# Altium schematic symbol library SCH - DRIVER - LED - TI TPS92512HVDGQR.SCHLIB: 1 symbol
Pins are listed as number, name and electrical type; pins without a type are passive.

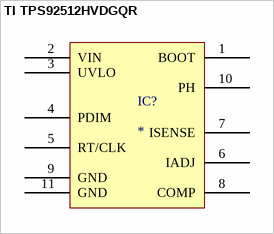
[diagram p0: symbol TI TPS92512HVDGQR]

## TI TPS92512HVDGQR
designator IC?
pins: 1 BOOT, 2 VIN, 3 UVLO, 4 PDIM, 5 RT/CLK, 6 IADJ, 7 ISENSE, 8 COMP, 9 GND, 10 PH, 11 GND